# Altium schematic symbol library SWITCH_SPDT.SchLib: 1 symbol
Pins are listed as number, name and electrical type; pins without a type are passive.

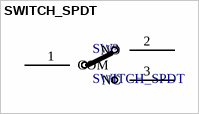
[diagram p0: symbol SWITCH_SPDT]

## SWITCH_SPDT
designator SW?
SPDT switch symbol
pins: 1 COM, 2 NO, 3 NC